# EAGLE library part LM5007MM (library LM5007)
Step-Down Switching Regulator
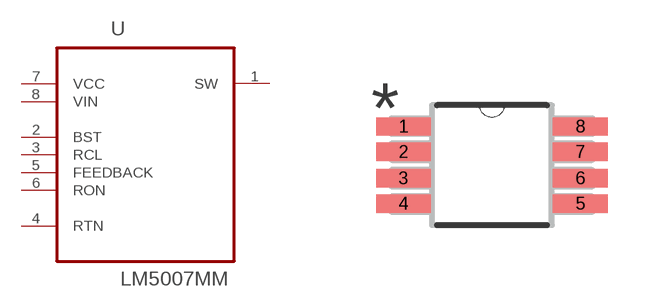
[diagram p0: symbol with the pads of SOP65P490X109-8N; footprint SOP65P490X109-8N]

Designator prefix U

## LM5007MM (MPN: LM5007MM; OC_FARNELL: 9779345; OC_NEWARK: 97K3542; PACKAGE: SOP-8; SUPPLIER: TEXAS INSTRUMENTS)  [SOP65P490X109-8N]
1  SW  out
2  BST  pas
3  RCL  pas
4  RTN  pas
5  FEEDBACK  in
6  RON  in
7  VCC  pwr
8  VIN  pwr

## Footprint SOP65P490X109-8N (pad centres in mm)
smd 1.372 x 0.457: 1 -2.21,0.965; 2 -2.21,0.33; 3 -2.21,-0.33; 4 -2.21,-0.965; 5 2.21,-0.965; 6 2.21,-0.33; 7 2.21,0.33; 8 2.21,0.965